# Altium schematic symbol library BSZ060NE2LSATMA1.SchLib: 1 symbol
Pins are listed as number, name and electrical type; pins without a type are passive.

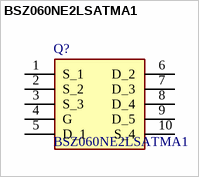
[diagram p0: symbol BSZ060NE2LSATMA1]

## BSZ060NE2LSATMA1
designator Q?
N-Channel MOSFET, 40 A, 25 V, 8-Pin TSDSON Infineon BSZ060NE2LSATMA1; Geometry.Height: 1.1mm; Mouser Part Number: 726-BSZ060NE2LSATMA1; Mouser Price/Stock: https://www.mouser.co.uk/ProductDetail/Infineon-Technologies/BSZ060NE2LSATMA1?qs=OwbwYO03UsIogM4kg2VcJw%3D%3D; Manufacturer_Name: Infineon; Manufacturer_Part_Number: BSZ060NE2LSATMA1; Datasheet Link: https://www.infineon.com/dgdl/BSZ060NE2LS_Rev+2.1.pdf?folderId=db3a304313b8b5a60113cee8763b02d7&fileId=db3a30432ea425a4012ec927cb360e1f
footprint BSZ060NE2LSATMA1
pins: 1 S_1, 2 S_2, 3 S_3, 4 G, 5 D_1, 6 D_2, 7 D_3, 8 D_4, 9 D_5, 10 S_4